# Altium schematic symbol library Local_Lib.SchLib: 2 symbols
Pins are listed as number, name and electrical type; pins without a type are passive.

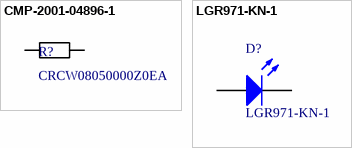
[diagram p0: symbols CMP-2001-04896-1 to LGR971-KN-1]

## CMP-2001-04896-1
designator R?, comment CRCW08050000Z0EA
Manufacturer: Vishay Dale; Part Number: CRCW08050000Z0EA
footprint RESC2013X50X30ML20T20 (Chip Resistor, 2-Leads, Body 2.00x1.25mm, IPC Low Density)
footprint RESC2013X50X30NL20T20 (Chip Resistor, 2-Leads, Body 2.00x1.25mm, IPC Medium Density)
footprint RESC2013X50X30LL20T20 (Chip Resistor, 2-Leads, Body 2.00x1.25mm, IPC High Density)
pins: 1, 2
1 alternate drawing of the same symbol

## LGR971-KN-1
designator D?
SMD mono-color Chip LED, 0805, Green; Manufacturer: Wuerth Elektronik; PackageReference: 0805_A; Color: Green; PartNumber: LGR971-KN-1; ComponentLink1Description: Manufacturer URL; ComponentLink2Description: Datasheet; Supplier: Stock ES; Value: LGR971-KN-1
footprint LED_0805 (Footprint not found)
footprint LED_0805 (Chip LED, 2-Leads, Body 2.0x1.3mm, IPC Medium Density)
pins: 1 K, 2 A